# EAGLE library part LTC4150 (library berkeley-epic)
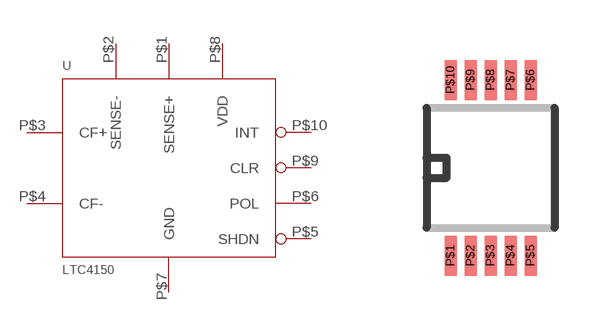
[diagram p7: symbol with the pads of MSOP-10; footprint MSOP-10]

Designator prefix U

## LTC4150  [MSOP-10]
P$1  SENSE+
P$2  SENSE-
P$3  CF+
P$4  CF-
P$5  SHDN
P$6  POL
P$7  GND
P$8  VDD
P$9  CLR
P$10  INT

## Footprint MSOP-10 (pad centres in mm)
smd 0.3 x 1: P$1 -1,-2.2; P$2 -0.5,-2.2; P$3 0,-2.2; P$4 0.5,-2.2; P$5 1,-2.2; P$6 1,2.2; P$7 0.5,2.2; P$8 0,2.2; P$9 -0.5,2.2; P$10 -1,2.2